# Altium schematic symbol library bemicro_max10_fpga_connectors.SchLib: 5 symbols
Pins are listed as number, name and electrical type; pins without a type are passive.

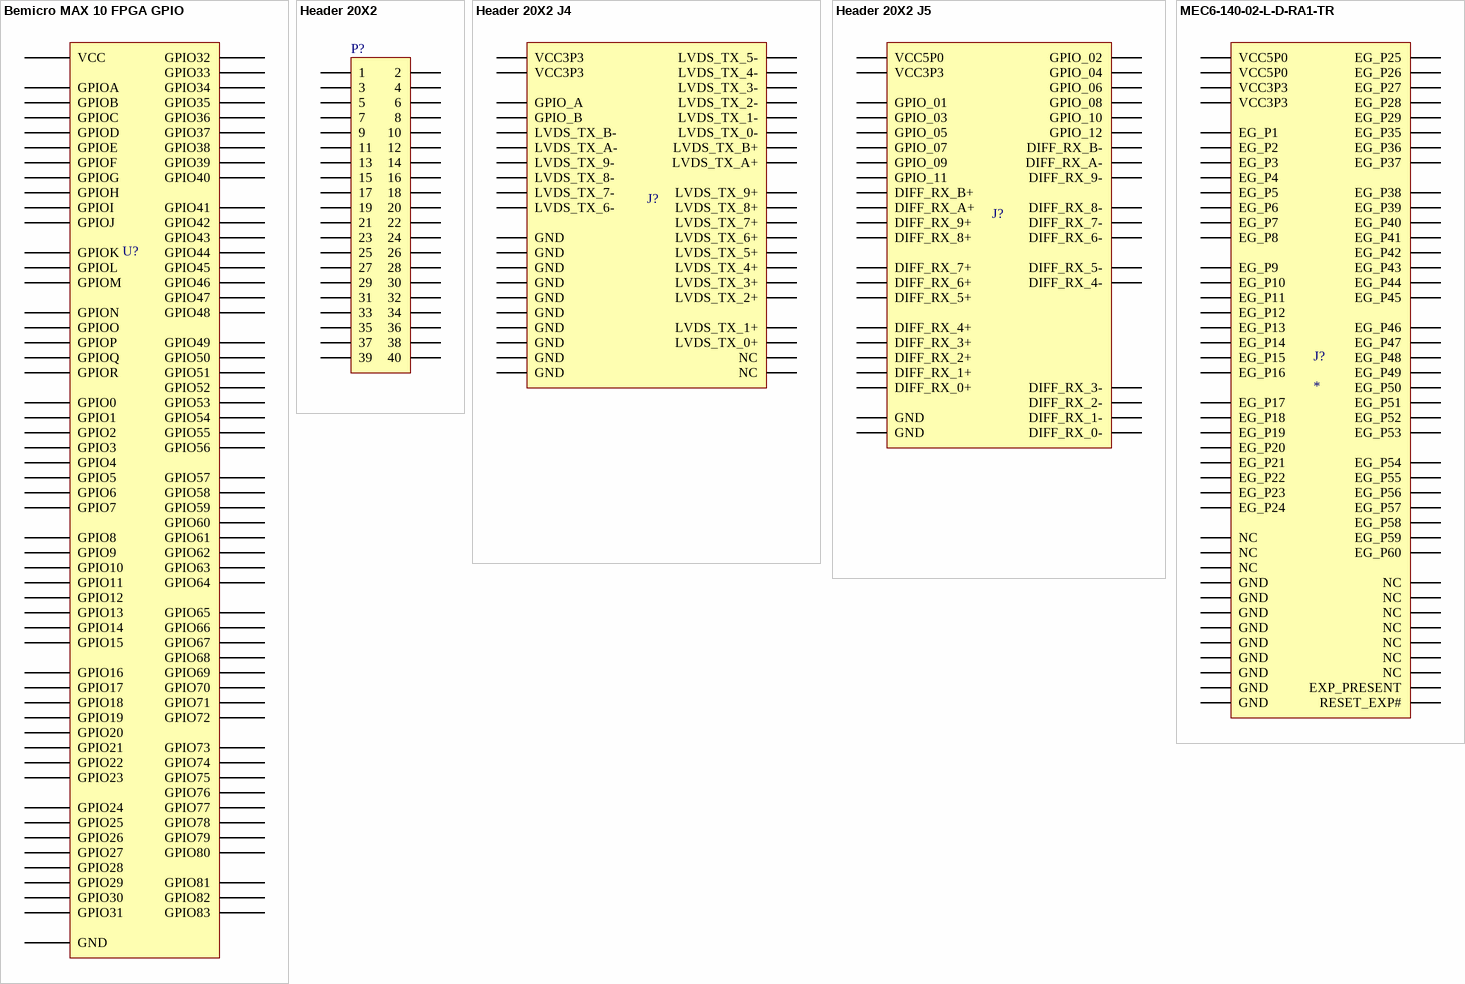
[diagram p0: symbols Bemicro MAX 10 FPGA GPIO to MEC6-140-02-L-D-RA1-TR]

## Bemicro MAX 10 FPGA GPIO
designator U?
GPIO pinout on dev board
pins: 14 GND, 21 GPIOQ, 21 GPIOR, 22 GPIOP, 23 GPIOO, 24 GPION, 26 GPIOM, 26 GPIOG, 26 GPIO0, 27 GPIOL, 27 GPIOF, 27 GPIO1, 28 GPIOK, 28 GPIOE, 28 GPIO2, 29 GPIOD, 29 GPIO3, 30 GPIOJ, 30 GPIOC, 30 GPIO4, 31 GPIOI, 31 GPIOB, 31 GPIO5, 32 GPIOH, 32 GPIOA, 32 VCC, 32 GPIO6, 33 GPIO7, 34 GPIO8, 35 GPIO9, 36 GPIO10, 37 GPIO11, 38 GPIO12, 39 GPIO13, 40 GPIO14, 41 GPIO15, 42 GPIO16, 43 GPIO17, 44 GPIO18, 45 GPIO19, 46 GPIO20, 47 GPIO21, 48 GPIO22, 49 GPIO23, 50 GPIO24, 51 GPIO25, 52 GPIO26, 53 GPIO27, 54 GPIO28, 55 GPIO29, 56 GPIO30, 57 GPIO31, 58 GPIO32, 59 GPIO33, 60 GPIO34, 61 GPIO35, 62 GPIO36, 63 GPIO37, 64 GPIO38, 65 GPIO39, 66 GPIO40, 67 GPIO41, 68 GPIO42, 69 GPIO43, 70 GPIO44, 71 GPIO45, 72 GPIO46, 73 GPIO47, 74 GPIO48, 75 GPIO49, 76 GPIO50, 77 GPIO51, 78 GPIO52, 79 GPIO53, 80 GPIO54, 81 GPIO55, 82 GPIO56, 83 GPIO57, 84 GPIO58, 85 GPIO59, 86 GPIO60, 87 GPIO61, 88 GPIO62, 89 GPIO63, 90 GPIO64, 91 GPIO65, 92 GPIO66, 93 GPIO67, 94 GPIO68, 95 GPIO69, 96 GPIO70, 97 GPIO71, 98 GPIO72, 99 GPIO73, 100 GPIO74, 101 GPIO75, 102 GPIO76, 103 GPIO77, 104 GPIO78, 104 GPIO81, 105 GPIO79, 105 GPIO82, 106 GPIO80, 106 GPIO83

## Header 20X2
designator P?
Header, 20-Pin, Dual row; LatestRevisionDate: 17-Jul-2002; LatestRevisionNote: Re-released for DXP Platform.; Publisher: Altium Limited
footprint 2x20 (Connector; Header; 20x2 Position)
pins: 1, 2, 3, 4, 5, 6, 7, 8, 9, 10, 11, 12, 13, 14, 15, 16, 17, 18, 19, 20, 21, 22, 23, 24, 25, 26, 27, 28, 29, 30, 31, 32, 33, 34, 35, 36, 37, 38, 39, 40

## Header 20X2 J4
designator J?
Header, 20-Pin, Dual row; LatestRevisionDate: 17-Jul-2002; LatestRevisionNote: Re-released for DXP Platform.; Publisher: Altium Limited
footprint 2x20 (Connector; Header; 20x2 Position)
pins: 1 VCC3P3, 2 VCC3P3, 3 NC, 4 NC, 5 GPIO_A, 6 GPIO_B, 7 GND, 8 GND, 9 GND, 10 GND, 11 LVDS_TX_B-, 12 LVDS_TX_B+, 13 LVDS_TX_A-, 14 LVDS_TX_A+, 15 LVDS_TX_9-, 16 LVDS_TX_9+, 17 GND, 18 GND, 19 LVDS_TX_8-, 20 LVDS_TX_8+, 21 LVDS_TX_7-, 22 LVDS_TX_7+, 23 LVDS_TX_6-, 24 LVDS_TX_6+, 25 GND, 26 GND, 27 LVDS_TX_5-, 28 LVDS_TX_5+, 29 LVDS_TX_4-, 30 LVDS_TX_4+, 31 LVDS_TX_3-, 32 LVDS_TX_3+, 33 GND, 34 GND, 35 LVDS_TX_2-, 36 LVDS_TX_2+, 37 LVDS_TX_1-, 38 LVDS_TX_1+, 39 LVDS_TX_0-, 40 LVDS_TX_0+

## Header 20X2 J5
designator J?
Header, 20-Pin, Dual row; LatestRevisionDate: 17-Jul-2002; LatestRevisionNote: Re-released for DXP Platform.; Publisher: Altium Limited
footprint 2x20 (Connector; Header; 20x2 Position)
pins: 1 GPIO_01, 2 GPIO_02, 3 GPIO_03, 4 GPIO_04, 5 GPIO_05, 6 GPIO_06, 7 GPIO_07, 8 GPIO_08, 9 GPIO_09, 10 GPIO_10, 11 VCC5P0, 12 GND, 13 GPIO_11, 14 GPIO_12, 15 DIFF_RX_B+, 16 DIFF_RX_B-, 17 DIFF_RX_A+, 18 DIFF_RX_A-, 19 DIFF_RX_9+, 20 DIFF_RX_9-, 21 DIFF_RX_8+, 22 DIFF_RX_8-, 23 DIFF_RX_7+, 24 DIFF_RX_7-, 25 DIFF_RX_6+, 26 DIFF_RX_6-, 27 DIFF_RX_5+, 28 DIFF_RX_5-, 29 VCC3P3, 30 GND, 31 DIFF_RX_4+, 32 DIFF_RX_4-, 33 DIFF_RX_3+, 34 DIFF_RX_3-, 35 DIFF_RX_2+, 36 DIFF_RX_2-, 37 DIFF_RX_1+, 38 DIFF_RX_1-, 39 DIFF_RX_0+, 40 DIFF_RX_0-

## MEC6-140-02-L-D-RA1-TR
designator J?
Edge connector; MF: Samtec; MP: MEC6-140-02-L-D-RA1-TR; Price: None; Availability: Unavailable; Package: None; Value: *
footprint SAMTEC_MEC6-140-02-L-D-RA1-TR
pins: 01 VCC3P3, 02 VCC3P3, 03 RESET_EXP#, 04 NC, 05 EG_P1, 06 EG_P35, 07 EG_P2, 08 EG_P36, 09 EG_P3, 10 GND, 11 EG_P4, 12 EG_P37, 13 EG_P5, 14 EG_P38, 15 EG_P6, 16 EG_P39, 17 EG_P7, 18 EG_P40, 19 EG_P8, 20 EG_P41, 21 GND, 22 GND, 23 EG_P9, 24 EG_P42, 25 EG_P10, 26 EG_P43, 27 EG_P11, 28 EG_P44, 29 EG_P12, 30 EG_P45, 31 EG_P13, 32 GND, 33 GND, 34 EG_P46, 35 EG_P14, 36 EG_P47, 37 EG_P15, 38 EG_P48, 39 EG_P16, 40 EG_P49, 41 EG_P17, 42 EG_P50, 43 EG_P18, 44 GND, 45 EG_P19, 46 EG_P51, 47 EG_P20, 48 EG_P52, 49 EG_P21, 50 EG_P53, 51 EG_P22, 52 EG_P54, 53 GND, 54 GND, 55 EG_P23, 56 EG_P55, 57 EG_P24, 58 EG_P56, 59 EG_P25, 60 EG_P57, 61 EG_P26, 62 EG_P58, 63 EG_P27, 64 EG_P59, 65 EG_P28, 66 EG_P60, 67 EG_P29, 68 NC, 69 NC, 70 NC, 71 NC, 72 NC, 73 NC, 74 NC, 75 NC, 76 GND, 77 NC, 78 EXP_PRESENT, 79 VCC5P0, 80 VCC5P0